# Altium schematic symbol library SN65HVD230D-SO8.SchLib: 1 symbol
Pins are listed as number, name and electrical type; pins without a type are passive.

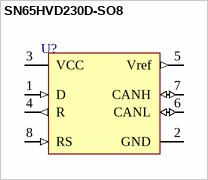
[diagram p0: symbol SN65HVD230D-SO8]

## SN65HVD230D-SO8
designator U?  (value not drawn)
pins: 1 D (in), 2 GND (power), 3 VCC (power), 4 R (out), 5 Vref (out), 6 CANL (io), 7 CANH (io), 8 RS (in)